# EAGLE library part PLUGARPADS (library PLUGAR_pads)
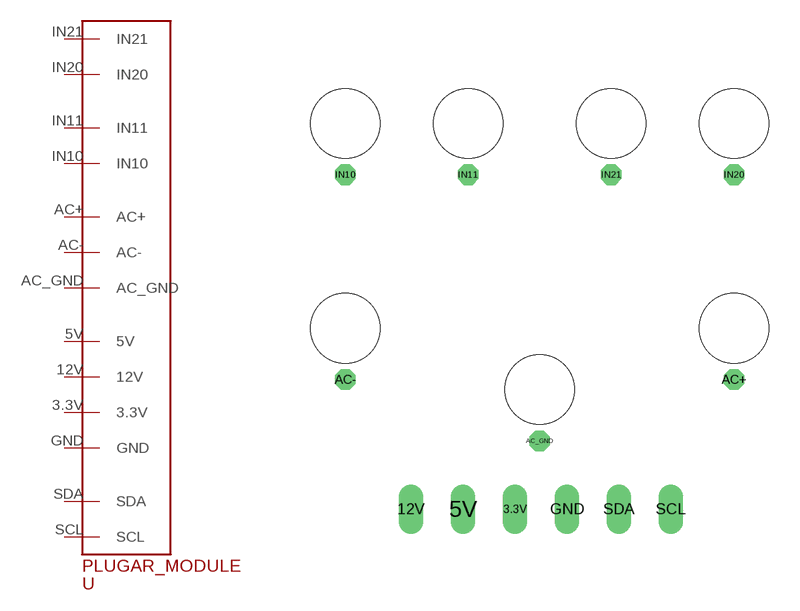
[diagram p0: symbol with the pads of PLUGAR; footprint PLUGAR]

Designator prefix -

## PLUGARPADS  [PLUGAR]
3.3V  3.3V
5V  5V
12V  12V
AC+  AC+
AC-  AC-
AC_GND  AC_GND
GND  GND
IN10  IN10
IN11  IN11
IN20  IN20
IN21  IN21
SCL  SCL
SDA  SDA

## Footprint PLUGAR (pad centres in mm)
Este componente tem as medidas exatas dos conectores que o PLUGAR padroniza.
drill 0.7 long: 3.3V -1.2,-5.84; 5V -3.74,-5.84; 12V -6.28,-5.84; GND 1.34,-5.84; SCL 6.42,-5.84; SDA 3.88,-5.84
drill 0.5 pad 0.61 octagon: AC+ 9.5,0.5; AC- -9.5,0.5; AC_GND 0,-2.5; IN10 -9.5,10.5; IN11 -3.5,10.5; IN20 9.5,10.5; IN21 3.5,10.5
hole 3.4 at 0,0
hole 3.4 at 9.5,3
hole 3.4 at -9.5,3
hole 3.4 at -9.5,13
hole 3.4 at 9.5,13
hole 3.4 at -3.5,13
hole 3.4 at 3.5,13